# Altium footprint library LIB_PCB_Main.PcbLib: 55 footprints (part 2 of 4)
Each footprint in its own frame and in the unit in brackets; x right, y up, seen from the top. Pads: shape width x height; smd on the part's side, far side on the other; paste and mask are expansions set on the pad; w line width, h text height; cw(c..) or ccw(c..) is an arc to the next point about the centre after c.
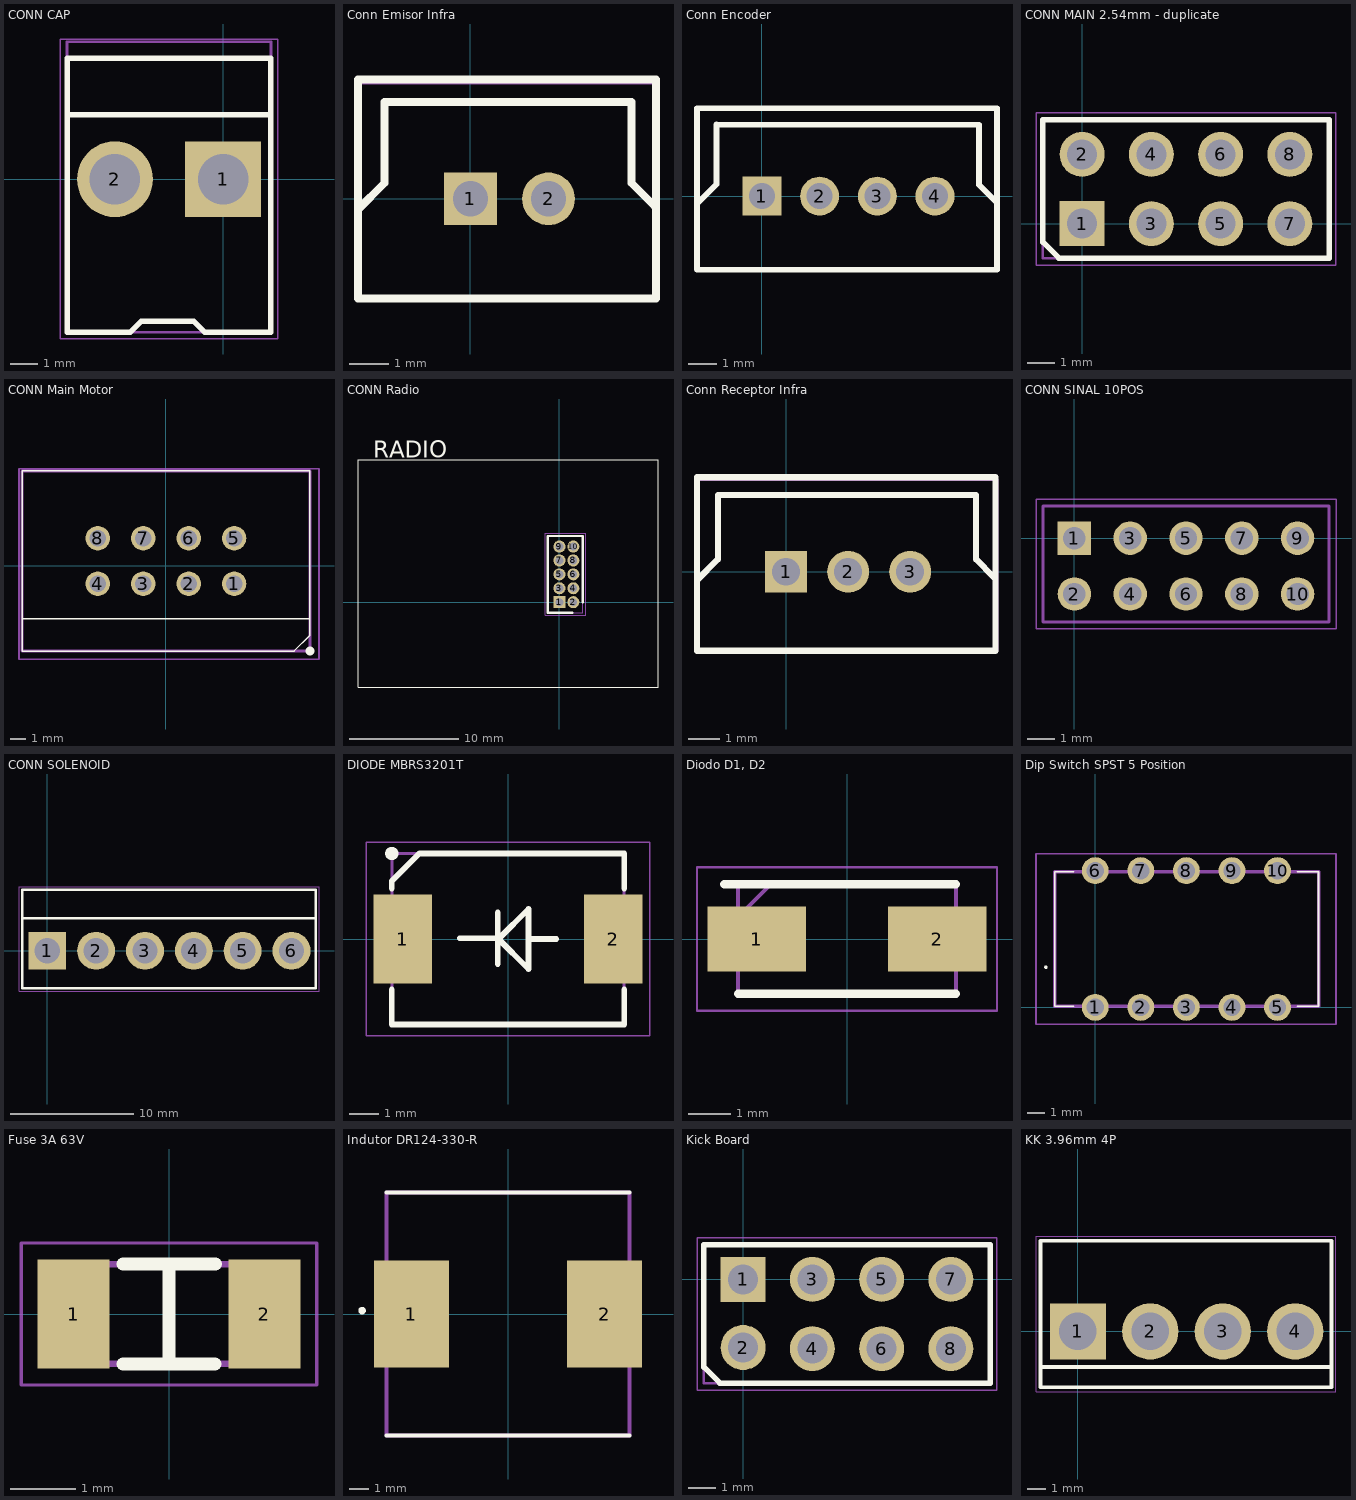
[diagram p1: the footprints below, top view; thin cyan lines are the x and y axes]

## CONN CAP [mm] "CONN HEADER VERT 2POS 3.96MM"
pads (2):
  rect 2.775x2.775 hole 1.85: 1(0,0)
  round 2.775 hole 1.85: 2(-3.96,0)
Top Overlay:
  lines w0.2: -5.639,2.362 1.676,2.362 ; -5.71,-5.6 -3.39,-5.6 -2.997,-5.207 -1.067,-5.207 -0.674,-5.6 -0.051,-5.6 1.75,-5.6 1.75,4.42 -5.71,4.42 -5.71,-5.6
Mechanical 13:
  lines w0.1: -5.71,-5.6 -5.71,5.035 -3.23,5.035 -2.605,5.035 -1.355,5.035 -0.73,5.035 1.75,5.035 1.75,-5.6 -5.71,-5.6
Mechanical 15:
  lines w0.05: -5.96,-5.85 -5.96,5.131 2,5.131 2,-5.85 -5.96,-5.85
3D body "09-65-2028.stp": height 13.85, standoff -3.6, extent -5.637,-5.715 1.523,5.035

## Conn Emisor Infra [mm] "CONN HEADER VERT 2POS 2MM"
pads (2):
  rect 1.35x1.35 hole 0.9: 1(0,0)
  round 1.35 hole 0.9: 2(2,0)
Top Overlay:
  lines w0.2: -2.875,-0.275 -2.2,0.4 -2.2,2.475 4.125,2.475 4.125,1.9 4.125,0.4 4.7,-0.175 ; -0.575,-2.55 4.75,-2.55 4.75,3.05 -2.875,3.05 -2.875,-2.55 -0.475,-2.55 1.425,-2.55
Mechanical 13:
  lines w0.1: -2.875,-2.55 4.8,-2.55 4.8,2.975 -2.875,2.975 -2.875,-2.55
Mechanical 15:
  lines w0.05: -0.944,-2.55 2.219,-2.55 4.8,-2.55 4.8,2.975 -2.875,2.975 -2.875,-2.55 1.056,-2.55
3D body "Conn_Emissor_Infravermelho.stp": height 8.55, standoff -3.25, extent -2.85,-2.55 4.85,3

## Conn Encoder [mm] "CONN HEADER VERT 4POS 2MM"
pads (4):
  rect 1.35x1.35 hole 0.9: 1(0,0)
  round 1.35 hole 0.9: 2(2,0) 3(4,0) 4(6,0)
Top Overlay:
  lines w0.2: -2.25,-2.537 -2.25,3.05 6.75,3.05 ; -2.25,-0.262 -1.575,0.413 -1.575,2.488 ; -2.238,-2.55 -0.475,-2.55 1.425,-2.55 6.75,-2.55 ; -1.575,2.475 6.125,2.475 ; 5.525,2.475 7.525,2.475 7.525,1.9 7.525,0.4 8.1,-0.175 ; 6.15,-2.55 8.15,-2.55 8.15,3.05 6.15,3.05
Mechanical 13:
  lines w0.1: -2.25,-2.537 -2.25,2.988 ; -2.25,3.05 8.15,3.05 8.15,-2.55 -2.237,-2.55
Mechanical 15:
  lines w0.05: 5.619,-2.55 8.15,-2.55 8.15,3.05 -2.25,3.05 -2.25,2.988 -2.237,-2.55 ; 6.8,-2.55 4.219,-2.55 1.056,-2.55 -1.75,-2.55 -2.237,-2.55 ; -2.237,-2.55 -2.237,-2.55 ; -2.237,-2.55 -2.237,-2.55
3D body "Conn_Encoder.stp": height 8.55, standoff -3.25, extent -2.15,-2.55 8.15,3

## CONN MAIN 2.54mm - duplicate [mm] "CONN HEADER VERT 8POS 2.54MM"
pads (8):
  rect 1.65x1.65 hole 1.1: 1(0,0)
  round 1.65 hole 1.1: 2(0,2.54) 3(2.54,0) 4(2.54,2.54) 5(5.08,0) 6(5.08,2.54) 7(7.62,0) 8(7.62,2.54)
Top Overlay:
  lines w0.2: -1.445,-0.68 -0.855,-1.27 9.065,-1.27 9.065,3.81 0,3.81 -1.445,3.81 -1.445,0 -1.445,-0.68
Mechanical 13:
  lines w0.1: -1.445,-1.27 9.065,-1.27 9.065,3.81 -1.445,3.81 -1.445,-1.27
Mechanical 15:
  lines w0.05: -1.695,-1.52 9.315,-1.52 9.315,4.06 -1.695,4.06 -1.695,-1.52
3D body "M20-9980445.stp": height 8.68, standoff -3, extent -1.27,-1.27 8.89,3.81

## CONN Main Motor [mm] "CONN HEADER VERT 8POS 3MM"
pads (8):
  round 1.605 hole 1.07: 1(4.5,-1.2) 2(1.5,-1.2) 3(-1.5,-1.2) 4(-4.5,-1.2) 5(4.5,1.8) 6(1.5,1.8) 7(-1.5,1.8) 8(-4.5,1.8)
Top Overlay:
  lines w0.1: -9.5,-3.5 9.5,-3.5 ; -9.5,4.25 -9.5,5.25 -9.5,6.25 9.5,6.25 9.5,5.25 9.5,4.25 9.5,2.25 9.5,1.8 9.5,-4.6 8.45,-5.65 -9.5,-5.65 -9.5,2.25 -9.5,4.41
  lines w0.6: 9.5,-5.65 9.5,-5.65
Mechanical 13:
  lines w0.2: -9.5,-5.65 -9.5,6.25 9.5,6.25 9.5,-5.65 -9.5,-5.65
Mechanical 15:
  lines w0.1: -9.7,-6.2 -9.7,6.4 10.1,6.4 10.1,2.89 10.1,-2.89 10.1,-6.2 -9.7,-6.2
3D body "Conn_Main_Motor.stp": height 11.65, standoff -3.21, extent -9.7,-5.4 9.3,6.5

## CONN Radio [mm] "CONN RCPT 1.27 mm 10POS 0.05 GOLD PCB"
pads (10):
  rect 1.1x1.1 hole 0.7: 1(0,0)
  round 1.1 hole 0.7: 2(1.27,0) 3(0,1.27) 4(1.27,1.27) 5(0,2.54) 6(1.27,2.54) 7(0,3.81) 8(1.27,3.81) 9(0,5.08) 10(1.27,5.08)
Top Overlay:
  lines w0.1: -18.4,-7.75 9,-7.75 9,13 -18.4,13 -18.4,-7.75
  lines w0.2: 1.17,-0.965 -1.065,-0.965 -1.065,6.045 2.135,6.045 2.135,0
  text "RADIO" at -17,13.2 h1.52
Mechanical 13:
  lines w0.1: -1.065,-0.965 -1.065,6.045 2.135,6.045 2.135,-0.965 -1.065,-0.965
Mechanical 15:
  lines w0.05: -1.315,-1.215 -1.315,6.295 2.385,6.295 2.385,-1.215 -1.315,-1.215

## Conn Receptor Infra [mm] "CONN HEADER VERT 3POS 2MM"
pads (3):
  rect 1.35x1.35 hole 0.9: 1(0,0)
  round 1.35 hole 0.9: 2(2,0) 3(4,0)
Top Overlay:
  lines w0.2: -2.875,-0.275 -2.2,0.4 -2.2,2.475 6.125,2.475 6.125,1.9 6.125,0.4 6.7,-0.175 ; -2.875,-2.55 -2.875,3.05 6.75,3.05 6.75,-2.55 1.425,-2.55 -0.475,-2.55 -2.875,-2.55
Mechanical 13:
  lines w0.1: -2.875,-2.55 6.8,-2.55 6.8,2.975 -2.875,2.975 -2.875,-2.55
Mechanical 15:
  lines w0.05: -2.875,-2.55 -2.875,2.975 6.8,2.975 6.8,-2.55 4.219,-2.55 1.056,-2.55 -2.875,-2.55
3D body "Conn_Emissor_Infravermelho.stp": height 8.55, standoff -3.25, extent -2.875,-2.55 6.825,3

## CONN SINAL 10POS [mm] "CONN Sinal MOTOR CONN SELF-MATE 10POS VERT GOLD"
pads (10):
  rect 1.2x1.2 hole 0.8: 1(0,0)
  round 1.2 hole 0.8: 2(0,-2) 3(2,0) 4(2,-2) 5(4,0) 6(4,-2) 7(6,0) 8(6,-2) 9(8,0) 10(8,-2)
Mechanical 13:
  lines w0.1: -1.125,-3 -1.125,1.15 7.125,1.15 9.125,1.15 9.125,-3 7.125,-3 -1.125,-3
Mechanical 15:
  lines w0.05: -1.375,-3.25 -1.375,1.4 7.375,1.4 9.375,1.4 9.375,-3.25 7.375,-3.25 -1.375,-3.25
3D body "Conn Bloco Bateria Main.stp": height 6.35, standoff -2.29, extent -1.782,-3.6 9.782,1.671

## CONN SOLENOID [mm] "SHDR6W183P0X396_1X6_2377X762X1105P"
pads (6):
  rect 3.075x3.075 hole 2.05: 1(0,0)
  round 3.075 hole 2.05: 2(3.96,0) 3(7.92,0) 4(11.88,0) 5(15.84,0) 6(19.8,0)
Top Overlay:
  lines w0.2: -2,2.65 21.761,2.65 ; -2.04,-3.05 0,-3.05 21.78,-3.05 21.78,4.951 -2.04,4.951 -2.04,0 -2.04,-3.05
Mechanical 13:
  lines w0.1: -2.04,-3.05 21.78,-3.05 21.78,4.951 -2.04,4.951 -2.04,-3.05
Mechanical 15:
  lines w0.05: -2.29,-3.3 22.03,-3.3 22.03,5.201 -2.29,5.201 -2.29,-3.3
3D body "Conn Solenoid.STEP": height 13.9, standoff -3.6, extent -1.999,-4.597 21.761,5.004

## DIODE MBRS3201T [mm] "Diode"
pads (2):
  rect 2x3.05 smd: 1(-3.6,0) 2(3.6,0)
Top Overlay:
  circle w0.254: c-3.97,2.922 r0.1
  lines w0.2: -3.97,-1.725 -3.97,-2.922 3.97,-2.922 3.97,-1.725 ; -3.97,1.725 -3.97,1.98 -3.028,2.922 3.97,2.922 3.97,1.725 ; -1.65,0.025 -0.6,0.025 ; -0.35,-0.85 -0.35,0.9 ; 0.7,0 1.65,0 ; -0.6,0.025 -0.35,0.025 0.7,-1.025 0.7,1.025 -0.3,0.025 -0.6,0.025
Mechanical 13:
  lines w0.1: -3.97,1.922 -2.97,2.922 ; -3.97,-2.922 3.97,-2.922 3.97,2.922 -3.97,2.922 -3.97,-2.922
Mechanical 15:
  lines w0.05: -4.85,-3.3 4.85,-3.3 4.85,3.3 -4.85,3.3 -4.85,-3.3
3D body "MBRS3201T3G.stp": height 2.56, standoff 0, extent -3.97,-2.923 3.97,2.923

## Diodo D1, D2 [mm] "Package DO-214AC, SMA"
pads (2):
  rect 2.35x1.55 smd: 1(-2.15,0) 2(2.15,0)
Top Overlay:
  lines w0.2: -2.925,1.302 2.598,1.302 ; -2.598,-1.302 2.598,-1.302
Mechanical 13:
  lines w0.1: -2.598,0.528 -1.822,1.302 ; -2.598,-1.302 2.598,-1.302 2.598,1.302 -2.598,1.302 -2.598,-1.302
Mechanical 15:
  lines w0.05: -3.575,-1.71 3.575,-1.71 3.575,1.71 -3.575,1.71 -3.575,-1.71
3D body "ES1G.stp": height 2.4, standoff 0, extent -2.598,-1.302 2.598,1.302

## Dip Switch SPST 5 Position [mil]
pads (10):
  round 59.09 hole 38: 1(0,0) 2(100,0) 3(200,0) 4(300,0) 5(400,0) 6(0,300) 7(100,300) 8(200,300) 9(300,300) 10(400,300)
Top Overlay:
  lines w3.94: -47.24,2.36 -88.98,2.36 -88.98,297.64 -47.24,297.64 ; 444.09,2.36 489.76,2.36 489.76,297.64 444.09,297.64 ; -110.24,88.19 cw(c-108.27,88.19) -106.3,88.19 cw(c-108.27,88.19) -110.24,88.19
Mechanical 13:
  lines w7.87: -88.98,2.36 490.16,2.36 490.16,297.64 -88.98,297.64 -88.98,2.36
Mechanical 15:
  lines w3.94: -130,-37.01 528.35,-37.01 528.35,337.01 -130,337.01 -130,-37.01

## Fuse 3A 63V [mm] "FUSC3215X66N"
pads (2):
  rect 1.1x1.67 smd: 1(-1.46,0) 2(1.46,0)
Top Overlay:
  lines w0.2: -0.7,-0.762 0.7,-0.762 0,-0.762 0,-0.662 0,0.662 ; -0.7,0.762 0.712,0.762 0,0.762
Mechanical 13:
  lines w0.1: -1.588,-0.762 1.588,-0.762 1.588,0.762 -1.588,0.762 -1.588,-0.762
Mechanical 15:
  lines w0.05: -2.26,-1.085 2.26,-1.085 2.26,1.085 -2.26,1.085 -2.26,-1.085
3D body "0466001.NRHF.stp": height 0.66, standoff 0, extent -1.587,-0.762 1.587,0.762

## Indutor DR124-330-R [mm] "33uH"
pads (2):
  rect 3.85x5.5 smd: 1(-4.975,0) 2(4.975,0)
Top Overlay:
  circle w0.2: c-7.516,0.171 r0.092
  lines w0.2: -6.25,-6.25 6.25,-6.25 ; -6.25,6.25 6.25,6.25
Mechanical 13:
  lines w0.2: -6.25,-6.25 6.25,-6.25 6.25,6.25 -6.25,6.25 -6.25,-6.25

## Kick Board [mm]
pads (8):
  rect 1.65x1.65 hole 1.1: 1(0,0)
  round 1.65 hole 1.1: 2(0,-2.5) 3(2.54,0) 4(2.54,-2.54) 5(5.08,0) 6(5.08,-2.54) 7(7.62,0) 8(7.62,-2.54)
via -10.6,33.28 diameter 3.8 hole 3.2
via -9.1,-50.22 diameter 3.8 hole 3.2
via 16.9,-50.22 diameter 3.8 hole 3.2
Top Overlay:
  lines w0.2: -1.445,-3.22 -1.445,-2.54 -1.445,1.27 0,1.27 9.065,1.27 9.065,-3.81 -0.855,-3.81 -1.445,-3.22
Mechanical 13:
  lines w0.1: -1.445,-3.81 -1.445,1.27 9.065,1.27 9.065,-3.81 -1.445,-3.81
Mechanical 15:
  lines w0.05: -1.695,-4.06 -1.695,1.52 9.315,1.52 9.315,-4.06 -1.695,-4.06

## KK 3.96mm 4P [mm] "640445-4"
pads (4):
  rect 3.075x3.075 hole 2.05: 1(0,0)
  round 3.075 hole 2.05: 2(3.96,0) 3(7.92,0) 4(11.88,0)
Top Overlay:
  lines w0.2: -2.025,-1.95 13.825,-1.95 ; -2.04,-3.05 0,-3.05 13.86,-3.05 13.86,4.951 -2.04,4.951 -2.04,0 -2.04,-3.05
Mechanical 13:
  lines w0.1: -2.04,-3.05 13.86,-3.05 13.86,4.951 -2.04,4.951 -2.04,-3.05
Mechanical 15:
  lines w0.05: -2.29,-3.3 14.11,-3.3 14.11,5.201 -2.29,5.201 -2.29,-3.3
3D body "Conn Cap 640445-4.STEP": height 10.9, standoff -3.7, extent -1.972,-3.835 13.808,4.665